# Altium footprint library DiskCapacitor.PcbLib: 1 footprints
Each footprint in its own frame and in the unit in brackets; x right, y up, seen from the top. Pads: shape width x height; smd on the part's side, far side on the other; paste and mask are expansions set on the pad; w line width, h text height; cw(c..) or ccw(c..) is an arc to the next point about the centre after c.
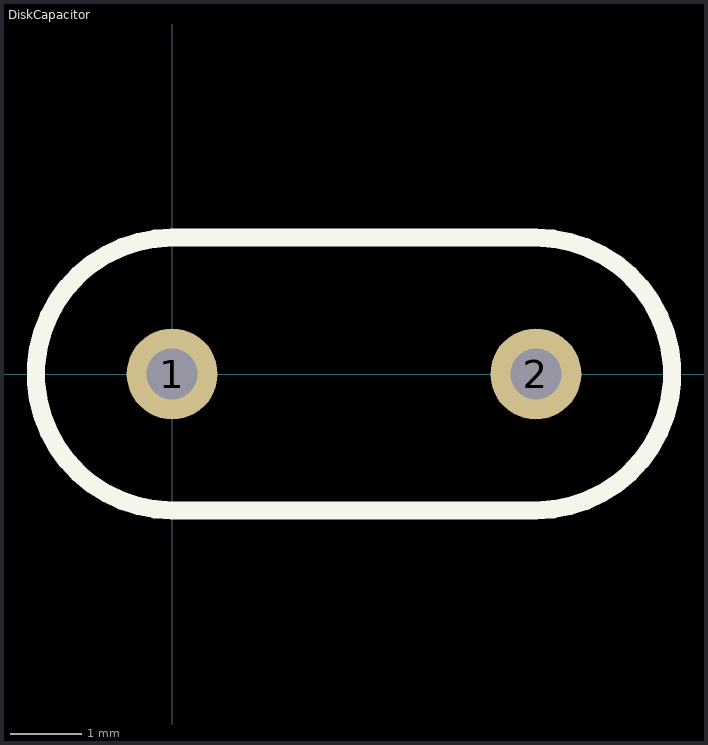
[diagram p0: the footprint, top view; thin cyan lines are the x and y axes]

## DiskCapacitor [mil]
pads (2):
  round 50 hole 28: 1(0,0) 2(200,0)
Top Overlay:
  lines w10: 0,-75 cw(c0,0) 0,75 200,75 cw(c200,0) 200,-75 0,-75
3D body: height 379.96, standoff 60.04, extent -59.91,-20 259.91,20
3D body: height 180, standoff 0, extent -18.99,-19 19,19
3D body: height 180, standoff 0, extent 181.01,-18.99 219,19